# Altium schematic symbol library ECS-320-8-36-RWN-TR.SchLib: 1 symbol
Pins are listed as number, name and electrical type; pins without a type are passive.

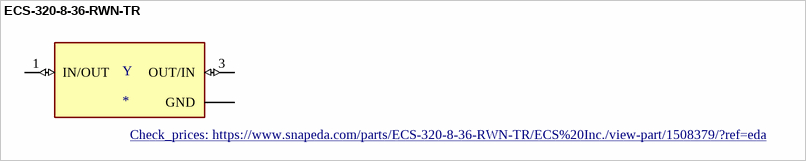
[diagram p0: symbol ECS-320-8-36-RWN-TR]

## ECS-320-8-36-RWN-TR
designator Y
32MHz Â±15ppm Crystal 8pF 50 Ohms 4-SMD, No Lead; MP: ECS-320-8-36-RWN-TR; MF: ECS Inc.; Package: SMD-4 ECS International; Price: None; Availability: Good; Mouser-Purchase-URL: https://snapeda.com/shop?store=Mouser&id=1508379; Arrow_Electronics-Purchase-URL: https://snapeda.com/shop?store=Arrow+Electronics&id=1508379; SnapEDA_Link: https://www.snapeda.com/parts/ECS-320-8-36-RWN-TR/ECS%20Inc./view-part/1508379/?ref=snap; Value: *; Check_prices: https://www.snapeda.com/parts/ECS-320-8-36-RWN-TR/ECS%20Inc./view-part/1508379/?ref=eda
footprint XTAL_ECS-320-8-36-RWN-TR
pins: 1 IN/OUT (io), 2 GND (power), 3 OUT/IN (io), 4 GND (power)